# Altium footprint library MZ7XBFUN20171130.PcbLib: 50 footprints (part 4 of 4)
Each footprint in its own frame and in the unit in brackets; x right, y up, seen from the top. Pads: shape width x height; smd on the part's side, far side on the other; paste and mask are expansions set on the pad; w line width, h text height; cw(c..) or ccw(c..) is an arc to the next point about the centre after c.
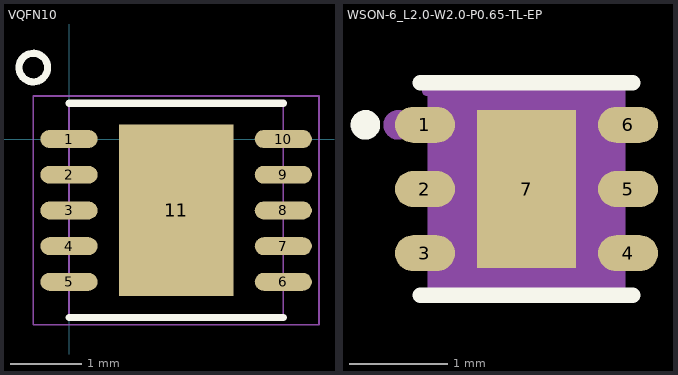
[diagram p3: the footprints below, top view; thin cyan lines are the x and y axes]

## VQFN10 [mm]
pads (11):
  oval 0.8x0.25 smd: 1(0,0) 2(0,-0.5) 3(0,-1) 4(0,-1.5) 5(0,-2) 6(3,-2) 7(3,-1.5) 8(3,-1) 9(3,-0.5) 10(3,0)
  rect 1.6x2.4 smd: 11(1.5,-1)
Top Overlay:
  circle w0.1: c-0.5,1 r0.2
  lines w0.1: 0,-2.5 3,-2.5 ; 0,0.5 3,0.5
Mechanical 6:
  text "11" at 1.18,-1.2 h0.76
Mechanical 7:
  lines w0.025: 0,-2.5 0,0.5 3,0.5 3,-2.5 0,-2.5
Mechanical 8:
  lines w0.025: -0.5,-2.6 -0.5,0.6 3.5,0.6 3.5,-2.6 -0.5,-2.6

## WSON-6_L2.0-W2.0-P0.65-TL-EP [mm]
pads (7):
  oval 0.607x0.364 smd: 1(455.984,-342.12) 2(455.984,-342.77) 3(455.984,-343.42) 4(458.041,-343.42) 5(458.041,-342.77) 6(458.041,-342.12)
  rect 1x1.6 smd: 7(457.013,-342.77)
Top Overlay:
  circle w0.15: c455.381,-342.12 r0.075
  lines w0.152: 455.937,-343.847 458.089,-343.847 ; 455.937,-341.694 458.089,-341.694
Mechanical 4:
  region: 456.013,-341.77 458.013,-341.77 458.013,-343.77 456.013,-343.77
Mechanical 5:
  region: 456.013,-341.97 456.263,-341.97 456.263,-342.27 456.013,-342.27
  region: 456.013,-342.62 456.263,-342.62 456.263,-342.92 456.013,-342.92
  region: 456.013,-343.27 456.263,-343.27 456.263,-343.57 456.013,-343.57
  region: 458.013,-343.27 457.763,-343.27 457.763,-343.57 458.013,-343.57
  region: 458.013,-342.62 457.763,-342.62 457.763,-342.92 458.013,-342.92
  region: 458.013,-341.97 457.763,-341.97 457.763,-342.27 458.013,-342.27
  region: 456.613,-341.97 457.513,-341.97 457.513,-343.57 456.513,-343.57 456.513,-342.07
Mechanical 6:
  circle w0.06: c456.013,-341.77 r0.03
Mechanical 15:
  circle w0.15: c455.713,-342.12 r0.075